# Altium footprint library 5.直插器件封装.PcbLib: 32 footprints (part 2 of 2)
Each footprint in its own frame and in the unit in brackets; x right, y up, seen from the top. Pads: shape width x height; smd on the part's side, far side on the other; paste and mask are expansions set on the pad; w line width, h text height; cw(c..) or ccw(c..) is an arc to the next point about the centre after c.
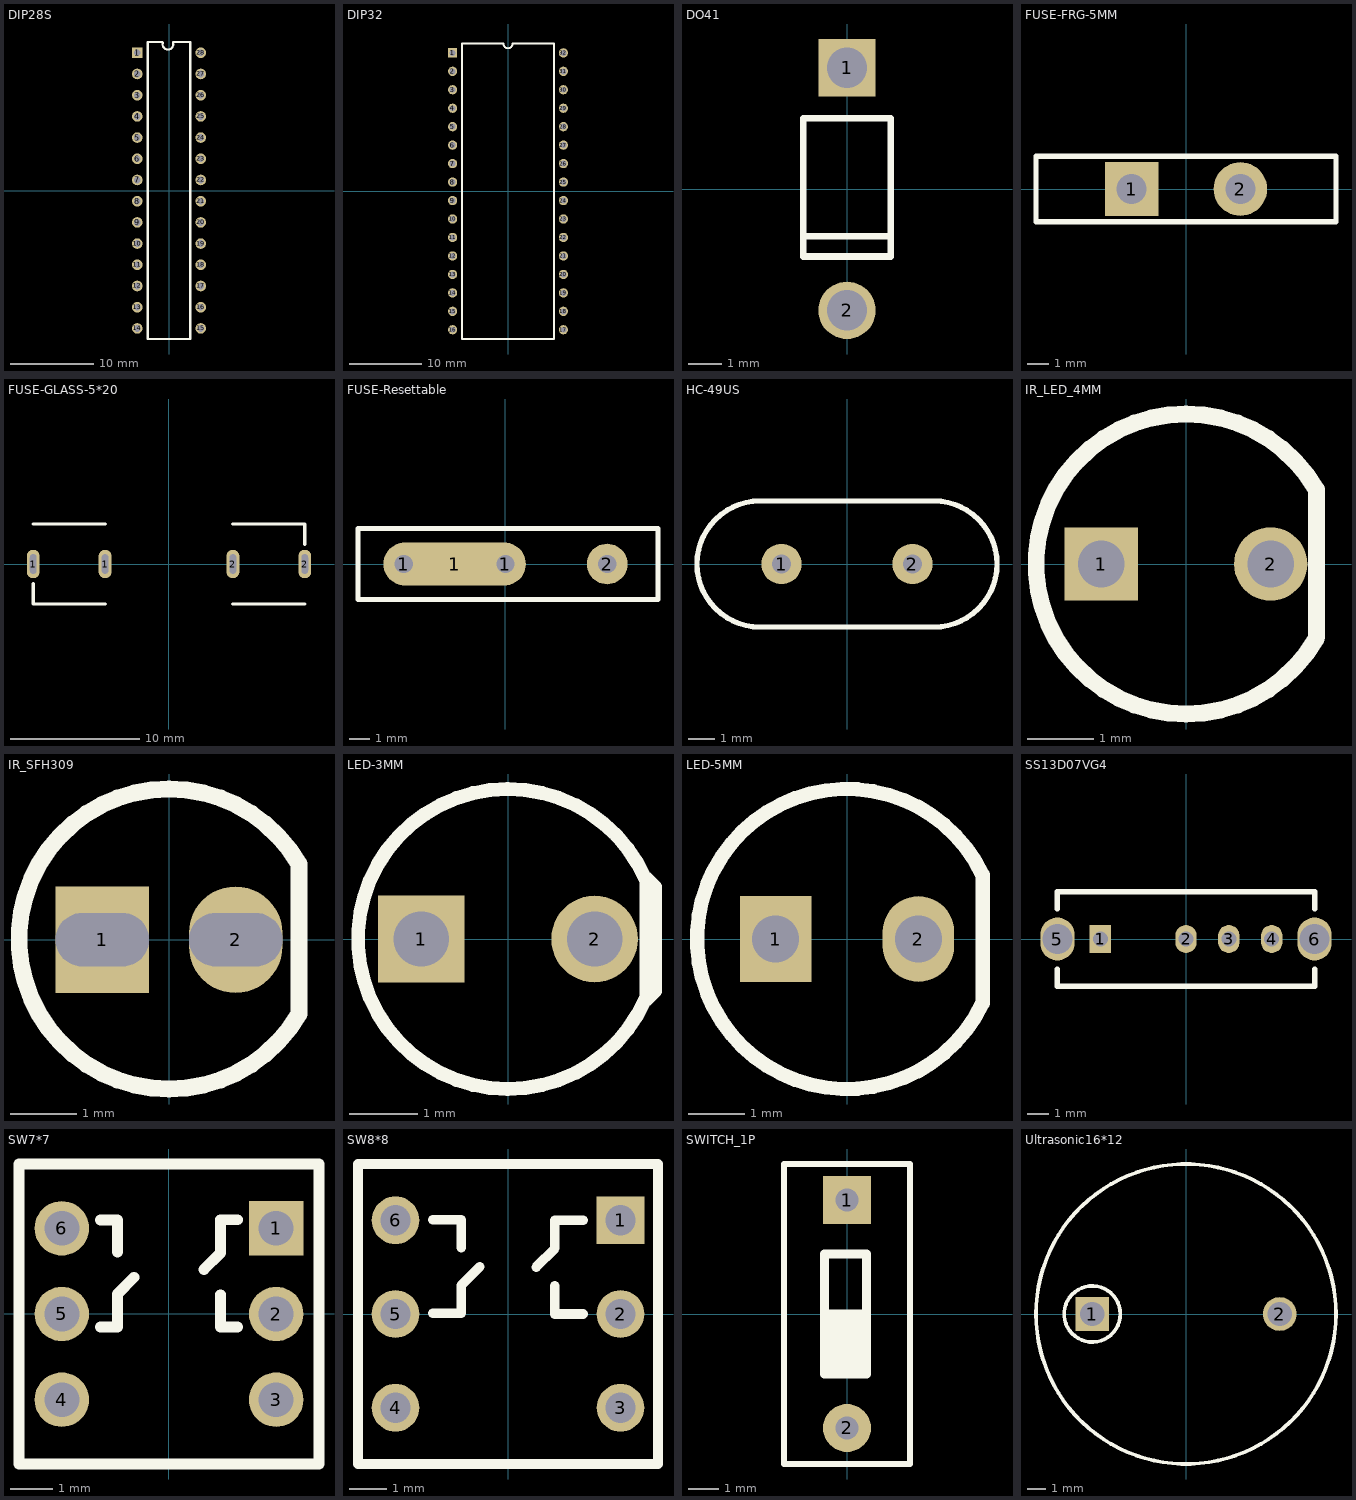
[diagram p1: the footprints below, top view; thin cyan lines are the x and y axes]

## DIP28S [mil]
pads (28):
  rect 50x50 hole 32: 1(-150,650)
  round 50 hole 32: 2(-150,550) 3(-150,450) 4(-150,350) 5(-150,250) 6(-150,150) 7(-150,50) 8(-150,-50) 9(-150,-150) 10(-150,-250) 11(-150,-350) 12(-150,-450) 13(-150,-550) 14(-150,-650) 15(150,-650) 16(150,-550) 17(150,-450) 18(150,-350) 19(150,-250) 20(150,-150) 21(150,-50) 22(150,50) 23(150,150) 24(150,250) 25(150,350) 26(150,450) 27(150,550) 28(150,650)
Top Overlay:
  lines w10: -100,700 -100,-700 100,-700 100,700 20,700 ; -95,700 -30,700 ; -28.21,699.28 ccw(c-5,690) 18.21,699.28

## DIP32 [mil]
pads (32):
  rect 50x50 hole 32: 1(-300,750)
  round 50 hole 32: 2(-300,650) 3(-300,550) 4(-300,450) 5(-300,350) 6(-300,250) 7(-300,150) 8(-300,50) 9(-300,-50) 10(-300,-150) 11(-300,-250) 12(-300,-350) 13(-300,-450) 14(-300,-550) 15(-300,-650) 16(-300,-750) 17(300,-750) 18(300,-650) 19(300,-550) 20(300,-450) 21(300,-350) 22(300,-250) 23(300,-150) 24(300,-50) 25(300,50) 26(300,150) 27(300,250) 28(300,350) 29(300,450) 30(300,550) 31(300,650) 32(300,750)
Top Overlay:
  lines w10: -250,-800 250,-800 250,800 25,800 cw(c0,800) -25,800 -250,800 -250,-800

## DO41 [mm]
pads (2):
  rect 1.7x1.7 hole 1.2: 1(0,3.6)
  round 1.7 hole 1.2: 2(0,-3.6)
Top Overlay:
  lines w0.203: -1.3,-1.4 1.3,-1.4 ; -1.3,-2 -1.3,2.1 1.3,2.1 1.3,-2 -1.3,-2

## FUSE-FRG-5MM [mm]
pads (2):
  rect 2.5x2.5 hole 1.4: 1(-2.54,0)
  round 2.5 hole 1.4: 2(2.54,0)
Top Overlay:
  lines w0.254: -7,-1.524 -7,1.524 7,1.524 7,-1.524 -7,-1.524

## FUSE-GLASS-5*20 [mm]
pads (4):
  oval 1x2.2 hole 0.5 slot 1.5 at 90 deg: 1(-10.5,0) 1(-4.94,0) 2(4.94,0) 2(10.5,0)
Top Overlay:
  lines w0.254: -10.5,-1.5 -10.5,-3.1 -4.94,-3.1 ; -10.5,3.1 -4.94,3.1 ; 4.94,-3.1 10.5,-3.1 ; 4.94,3.1 10.5,3.1 10.5,1.5

## FUSE-Resettable [mil]
pads (4):
  round 80 hole 36: 1(-200,0) 1(0,0) 2(200,0)
  oval 280x85 smd: 1(-100,0)
Top Overlay:
  lines w10: -290,-70 300,-70 300,70 -290,70 -290,-70

## HC-49US [mm]
pads (2):
  round 1.5 hole 0.7: 1(-2.44,0) 2(2.44,0)
Top Overlay:
  lines w0.2: -3.24,-2.35 cw(c-3.24,0) -3.24,2.35 3.24,2.35 cw(c3.24,0) 3.24,-2.35 -3.24,-2.35

## IR_LED_4MM [mm]
pads (2):
  rect 1.1x1.1 hole 0.7: 1(-1.27,0)
  round 1.1 hole 0.7: 2(1.27,0)
Top Overlay:
  lines w0.254: 1.949,-1.125 cw(c0,0) 1.949,1.125 ; 1.956,-1.092 1.956,1.118

## IR_SFH309 [mm]
pads (2):
  rect 1.4x1.6 hole 0.8 slot 1.4 at 0 deg: 1(-1,0)
  oval 1.4x1.6 hole 0.8 slot 1.4 at 0 deg: 2(1,0)
Top Overlay:
  lines w0.254: 1.949,-1.114 cw(c0,0.011) 1.949,1.136 1.949,-1.114

## LED-3MM [mil]
pads (2):
  rect 50x50 hole 32: 1(-50,0)
  round 50 hole 32: 2(50,0)
Top Overlay:
  lines w8: 79.35,-34.72 cw(c0,0) 79.35,34.72 ; 80,-35 85,-30 85,30 80,35 80,-35

## LED-5MM [mil]
pads (2):
  rect 50x60 hole 33: 1(-50,0)
  oval 50x60 hole 33: 2(50,0)
Top Overlay:
  lines w10: 94.89,-44.95 cw(c0,0) 94.89,44.95 ; 95,-44.95 95,44.95

## SS13D07VG4 [mm]
pads (6):
  rect 1x1.3 hole 0.7: 1(-4,0)
  oval 1x1.3 hole 0.7: 2(0,0) 3(2,0) 4(4,0)
  oval 1.6x2 hole 1.4: 5(-6,0) 6(6,0)
Top Overlay:
  lines w0.254: -6,-1.4 -6,-2.2 6,-2.2 6,-1.4 ; -6,1.4 -6,2.2 6,2.2 6,1.4

## SW7*7 [mm]
pads (6):
  rect 1.27x1.27 hole 0.813: 1(2.5,2)
  round 1.27 hole 0.813: 2(2.5,0) 3(2.5,-2) 4(-2.5,-2) 5(-2.5,0) 6(-2.5,2)
Top Overlay:
  lines w0.254: -1.6,-0.305 -1.2,-0.305 -1.2,0.47 -0.813,0.858 ; -1.6,2.195 -1.2,2.195 -1.2,1.445 ; 0.813,1.038 1.2,1.425 1.2,2.2 1.6,2.2 ; 1.2,0.45 1.2,-0.3 1.6,-0.3 ; -3.5,-3.5 -3.5,3.5 3.5,3.5 3.5,-3.5 -3.5,-3.5

## SW8*8 [mm]
pads (6):
  rect 1.27x1.27 hole 0.813: 1(3,2.5)
  round 1.27 hole 0.813: 2(3,0) 3(3,-2.5) 4(-3,-2.5) 5(-3,0) 6(-3,2.5)
Top Overlay:
  lines w0.254: -2,0.015 -1.25,0.015 -1.25,0.765 -0.75,1.265 ; -2,2.515 -1.25,2.515 -1.25,1.765 ; 0.75,1.25 1.25,1.75 1.25,2.5 2,2.5 ; 1.25,0.75 1.25,0 2,0 ; -4,-4 4,-4 4,4 -4,4 -4,-4

## SWITCH_1P [mm]
pads (2):
  rect 1.6x1.6 hole 0.762: 1(0,3.8)
  round 1.6 hole 0.762: 2(0,-3.8)
Top Overlay:
  lines w0.2: -2.1,-5 2.1,-5 2.1,5 -2.1,5 -2.1,-5
  lines w0.3: -0.75,0 -0.75,2 0.65,2 0.65,0 ; -0.75,0 0.65,0 ; -0.75,0 -0.75,-2 0.65,-2 0.65,0 ; -0.75,0 0.65,0
  lines w1: -0.25,-1.5 -0.25,-0.5 0.25,-0.5 0.25,-1.5 -0.25,-1.5

## Ultrasonic16*12 [mm]
pads (2):
  rect 1.8x1.8 hole 1.3: 1(-5,0)
  round 1.8 hole 1.3: 2(5,0)
Top Overlay:
  circle w0.2: c-5,0 r1.497
  circle w0.2: c0,0 r8